# Altium schematic symbol library coilcract.SchLib: 1 symbol
Pins are listed as number, name and electrical type; pins without a type are passive.

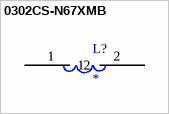
[diagram p0: symbol 0302CS-N67XMB]

## 0302CS-N67XMB
designator L?
footprint 0302CS SERIES (Coilcraft Chip Inductor)
pins: 1, 2